# EAGLE library part 20070-1A04 (library VFD)
AOTOM 20070-1A04 Alphanumeric VFD
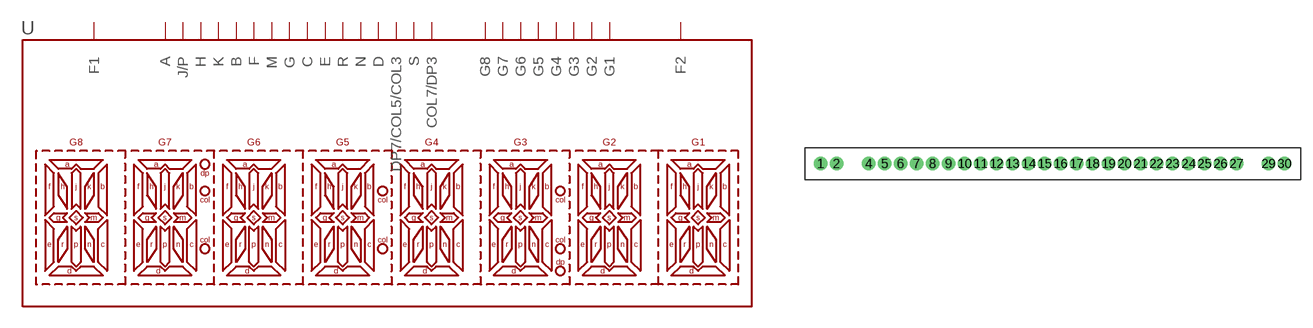
[diagram p0: symbol with the pads of 20070-1A04; footprint 20070-1A04]

Designator prefix U

## 20070-1A04PTH  [20070-1A04]
1  F1
2  F1
4  A
5  J/P
6  H
7  K
8  B
9  F
10  M
11  G
12  C
13  E
14  R
15  N
16  D
17  DP7/COL5/COL3
18  S
19  COL7/DP3
20  G8
21  G7
22  G6
23  G5
24  G4
25  G3
26  G2
27  G1
29  F2
30  F2

## Footprint 20070-1A04 (pad centres in mm)
drill 0.9 pad 1.7: 1 -29,0; 2 -27,0; 4 -23,0; 5 -21,0; 6 -19,0; 7 -17,0; 8 -15,0; 9 -13,0; 10 -11,0; 11 -9,0; 12 -7,0; 13 -5,0; 14 -3,0; 15 -1,0; 16 1,0; 17 3,0; 18 5,0; 19 7,0; 20 9,0; 21 11,0; 22 13,0; 23 15,0; 24 17,0; 25 19,0; 26 21,0; 27 23,0; 29 27,0; 30 29,0